# Altium schematic symbol library BLA31BD601SN4D.Schlib: 1 symbol
Pins are listed as number, name and electrical type; pins without a type are passive.

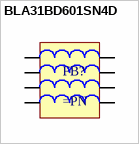
[diagram p0: symbol BLA31BD601SN4D]

## BLA31BD601SN4D
designator FB?
4 Signal Line Ferrite Bead 1206 (3216 Metric)
pins: 1, 2, 3, 4, 5, 6, 7, 8